# EAGLE library part INA219-DCN (library space-concordia-power)
INA219-DCN voltage/current/power monitor with I2C interface SOT23-8 package
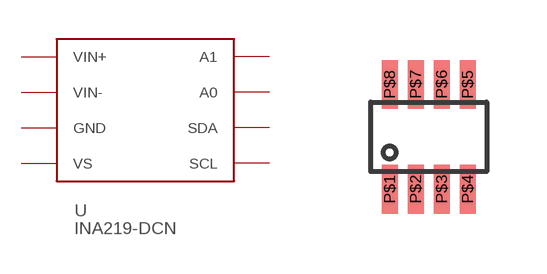
[diagram p5: symbol with the pads of TSOT23-8; footprint TSOT23-8]

Designator prefix -

## INA219-DCN  [TSOT23-8]
P$1  VIN+
P$2  VIN-
P$3  GND
P$4  VS
P$5  SCL
P$6  SDA
P$7  A0
P$8  A1

## Footprint TSOT23-8 (pad centres in mm)
smd 0.4 x 1.22: P$1 -0.975,-1.31; P$2 -0.325,-1.31; P$3 0.325,-1.31; P$4 0.975,-1.31; P$5 0.975,1.31; P$6 0.325,1.31; P$7 -0.325,1.31; P$8 -0.975,1.31